# Altium footprint library TVS_0603_1610.PcbLib: 1 footprints
Each footprint in its own frame and in the unit in brackets; x right, y up, seen from the top. Pads: shape width x height; smd on the part's side, far side on the other; paste and mask are expansions set on the pad; w line width, h text height; cw(c..) or ccw(c..) is an arc to the next point about the centre after c.
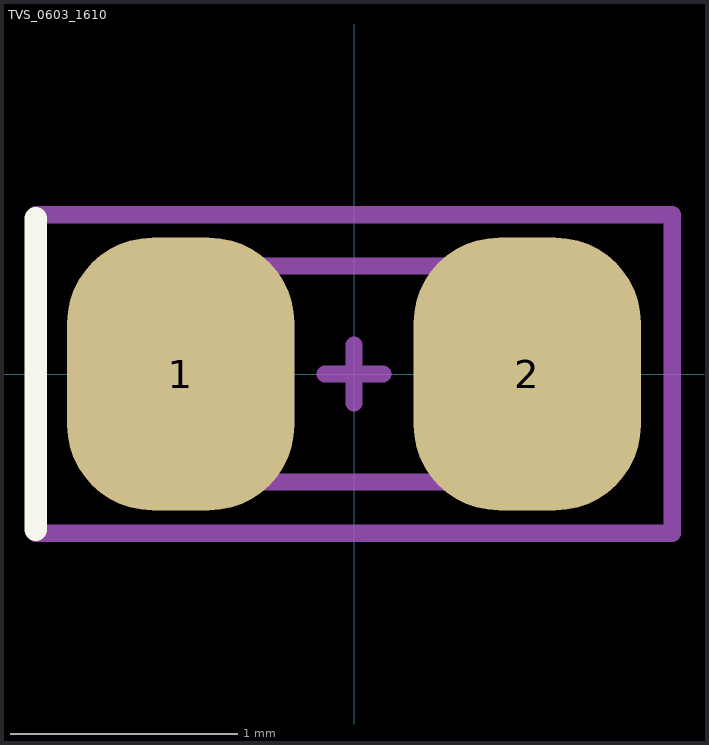
[diagram p0: the footprint, top view; thin cyan lines are the x and y axes]

## TVS_0603_1610 [mm]
pads (2):
  rrect75% 1x1.2 smd mask+0.1: 1(-0.762,0) 2(0.762,0)
Top Overlay:
  lines w0.1: -1.4,-0.686 -1.4,0.686
Top Assembly:
  lines w0.076: -0.8,-0.475 0.8,-0.475 0.8,0.475 -0.8,0.475 -0.8,-0.475
  lines w0.2: -0.6,-0.3 -0.6,0.3
Top Courtyard:
  lines w0.076: -0.127,0 0.127,0 ; 0,-0.127 0,0.127 ; -1.4,-0.7 1.4,-0.7 1.4,0.7 -1.4,0.7 -1.4,-0.7
3D body "QFN1610_STM.step": height 0.6, standoff -0.01, extent -0.8,-0.495 0.8,0.495